# Altium schematic symbol library circuits integres.SchLib: 125 symbols (part 2 of 2)
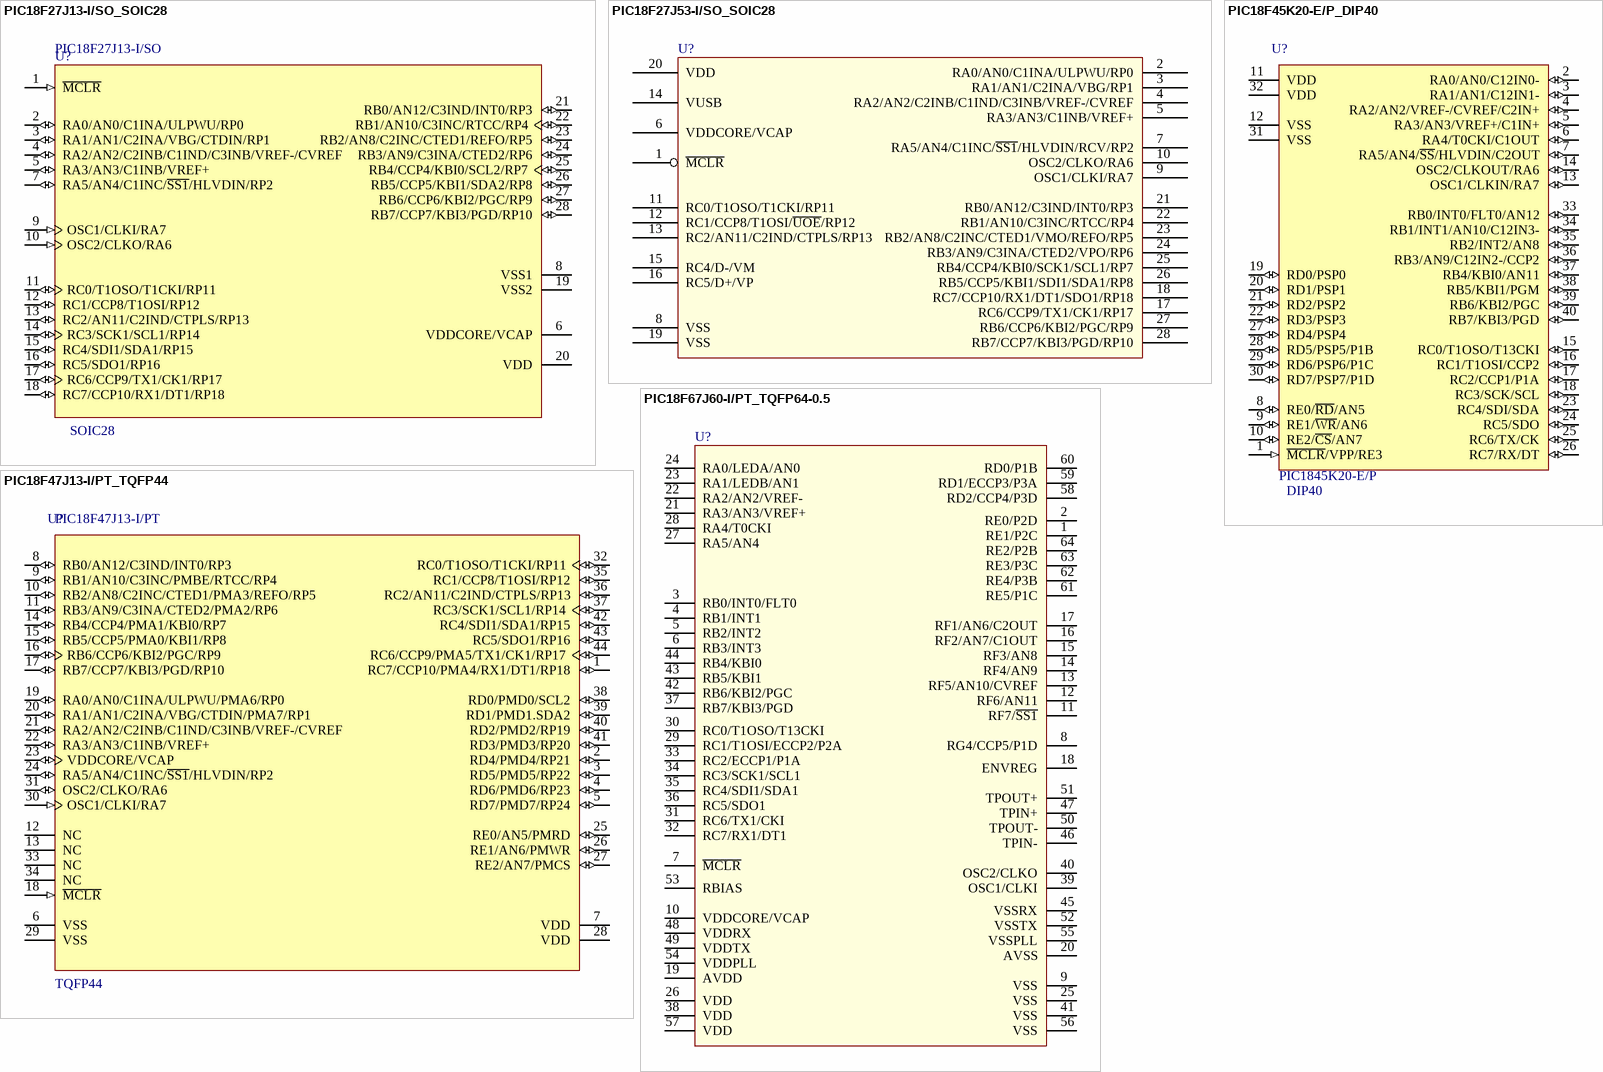
[diagram p10: symbols PIC18F27J13-I/SO_SOIC28 to PIC18F67J60-I/PT_TQFP64-0.5]

## PIC18F27J13-I/SO_SOIC28
designator U?  Package: SOIC28  Type: PIC18F27J13-I/SO  (hidden comment: PIC18F27J13-I/SO_SOIC28)
MICROCONTROLEUR 8 BITS - I/O - 128 KO : MEMOIRE PROG - 8 TIMERS - 3760 OCTETS : RAM - 13 CANAUX A/D 12 BITS - 48MHz : HORLOGE - SOIC28
footprint SOIC28_PAS=1.27_LARG=10.3_LONG=18 (28-Pin Plastic Small Outline Integrated Circuit ; 28 Leads ; Body Width = 7.5 mm ; Pitch = 1.27 mm ; IPC Low Density)
pins: 1 ~{MCLR} (in), 2 RA0/AN0/C1INA/ULPWU/RP0 (io), 3 RA1/AN1/C2INA/VBG/CTDIN/RP1 (io), 4 RA2/AN2/C2INB/C1IND/C3INB/VREF-/CVREF (io), 5 RA3/AN3/C1INB/VREF+ (io), 6 VDDCORE/VCAP (power), 7 RA5/AN4/C1INC/~{SS1}/HLVDIN/RP2 (io), 8 VSS1 (power), 9 OSC1/CLKI/RA7 (in), 10 OSC2/CLKO/RA6 (in), 11 RC0/T1OSO/T1CKI/RP11 (io), 12 RC1/CCP8/T1OSI/RP12 (io), 13 RC2/AN11/C2IND/CTPLS/RP13 (io), 14 RC3/SCK1/SCL1/RP14 (io), 15 RC4/SDI1/SDA1/RP15 (io), 16 RC5/SDO1/RP16 (io), 17 RC6/CCP9/TX1/CK1/RP17 (io), 18 RC7/CCP10/RX1/DT1/RP18 (io), 19 VSS2 (power), 20 VDD (power), 21 RB0/AN12/C3IND/INT0/RP3 (io), 22 RB1/AN10/C3INC/RTCC/RP4 (io), 23 RB2/AN8/C2INC/CTED1/REFO/RP5 (io), 24 RB3/AN9/C3INA/CTED2/RP6 (io), 25 RB4/CCP4/KBI0/SCL2/RP7 (io), 26 RB5/CCP5/KBI1/SDA2/RP8 (io), 27 RB6/CCP6/KBI2/PGC/RP9 (io), 28 RB7/CCP7/KBI3/PGD/RP10 (io)

## PIC18F27J53-I/SO_SOIC28
designator U?  (value not drawn)
footprint SOIC28_PAS=1.27_LARG=10.3_LONG=18 (28-Pin Plastic Small Outline Integrated Circuit ; 28 Leads ; Body Width = 7.5 mm ; Pitch = 1.27 mm ; IPC Low Density)
pins: 1 ~{MCLR}, 2 RA0/AN0/C1INA/ULPWU/RP0, 3 RA1/AN1/C2INA/VBG/RP1, 4 RA2/AN2/C2INB/C1IND/C3INB/VREF-/CVREF, 5 RA3/AN3/C1INB/VREF+, 6 VDDCORE/VCAP, 7 RA5/AN4/C1INC/~{SS1}/HLVDIN/RCV/RP2, 8 VSS, 9 OSC1/CLKI/RA7, 10 OSC2/CLKO/RA6, 11 RC0/T1OSO/T1CKI/RP11, 12 RC1/CCP8/T1OSI/~{UOE}/RP12, 13 RC2/AN11/C2IND/CTPLS/RP13, 14 VUSB, 15 RC4/D-/VM, 16 RC5/D+/VP, 17 RC6/CCP9/TX1/CK1/RP17, 18 RC7/CCP10/RX1/DT1/SDO1/RP18, 19 VSS, 20 VDD, 21 RB0/AN12/C3IND/INT0/RP3, 22 RB1/AN10/C3INC/RTCC/RP4, 23 RB2/AN8/C2INC/CTED1/VMO/REFO/RP5, 24 RB3/AN9/C3INA/CTED2/VPO/RP6, 25 RB4/CCP4/KBI0/SCK1/SCL1/RP7, 26 RB5/CCP5/KBI1/SDI1/SDA1/RP8, 27 RB6/CCP6/KBI2/PGC/RP9, 28 RB7/CCP7/KBI3/PGD/RP10

## PIC18F45K20-E/P_DIP40
designator U?  Type: PIC1845K20-E/P  Package: DIP40  (hidden comment: PIC18F45K20-E/P_DIP40)
MICROCONTROLEUR 8 BITS - 36I/O - 32KO : FLASH - 16KMOTS : MEMOIRE PROG - 4 TIMERS - 256 OCTETS : EEPROM -
footprint DIP40_PAS=2.54_LARG=15.24_LONG=52.5 (Dual-In-Line Plastic Packages (PDIP) ; 40 Leads ; Row Spacing = 15.24 mm ; Pitch = 2.54 mm)
pins: 1 ~{MCLR}/VPP/RE3 (in), 2 RA0/AN0/C12IN0- (io), 3 RA1/AN1/C12IN1- (io), 4 RA2/AN2/VREF-/CVREF/C2IN+ (io), 5 RA3/AN3/VREF+/C1IN+ (io), 6 RA4/T0CKI/C1OUT (io), 7 RA5/AN4/~{SS}/HLVDIN/C2OUT (io), 8 RE0/~{RD}/AN5 (io), 9 RE1/~{WR}/AN6 (io), 10 RE2/~{CS}/AN7 (io), 11 VDD (power), 12 VSS (power), 13 OSC1/CLKIN/RA7 (io), 14 OSC2/CLKOUT/RA6 (io), 15 RC0/T1OSO/T13CKI (io), 16 RC1/T1OSI/CCP2 (io), 17 RC2/CCP1/P1A (io), 18 RC3/SCK/SCL (io), 19 RD0/PSP0 (io), 20 RD1/PSP1 (io), 21 RD2/PSP2 (io), 22 RD3/PSP3 (io), 23 RC4/SDI/SDA (io), 24 RC5/SDO (io), 25 RC6/TX/CK (io), 26 RC7/RX/DT (io), 27 RD4/PSP4 (io), 28 RD5/PSP5/P1B (io), 29 RD6/PSP6/P1C (io), 30 RD7/PSP7/P1D (io), 31 VSS (power), 32 VDD (power), 33 RB0/INT0/FLT0/AN12 (io), 34 RB1/INT1/AN10/C12IN3- (io), 35 RB2/INT2/AN8 (io), 36 RB3/AN9/C12IN2-/CCP2 (io), 37 RB4/KBI0/AN11 (io), 38 RB5/KBI1/PGM (io), 39 RB6/KBI2/PGC (io), 40 RB7/KBI3/PGD (io)

## PIC18F47J13-I/PT_TQFP44
designator U?  Type: PIC18F47J13-I/PT  Package: TQFP44  (hidden comment: PIC18F47J13-I/PT_TQFP44)
MICROCONTROLEUR 8 BITS - 36 I/O - 32 KO : FLASH - 16 KMOTS : MEMOIRE PROG - 4 TIMERS - 256 OCTETS : EEPROM - 1536 OCTETS : RAM - 13 CANAUX A/D 10 BITS - 40 MHz : HORLOGE - TQFP44
footprint TQFP44_PAS=0.8_LARG=12_LONG=12 (Thin Plastic Quad Flat Pack Package ; 44 Leads ; Body : 10 mm x 10 mm ; Pitch = 0.8 mm ; IPC Low Density)
pins: 1 RC7/CCP10/PMA4/RX1/DT1/RP18 (io), 2 RD4/PMD4/RP21 (io), 3 RD5/PMD5/RP22 (io), 4 RD6/PMD6/RP23 (io), 5 RD7/PMD7/RP24 (io), 6 VSS (power), 7 VDD (power), 8 RB0/AN12/C3IND/INT0/RP3 (io), 9 RB1/AN10/C3INC/PMBE/RTCC/RP4 (io), 10 RB2/AN8/C2INC/CTED1/PMA3/REFO/RP5 (io), 11 RB3/AN9/C3INA/CTED2/PMA2/RP6 (io), 12 NC, 13 NC, 14 RB4/CCP4/PMA1/KBI0/RP7 (io), 15 RB5/CCP5/PMA0/KBI1/RP8 (io), 16 RB6/CCP6/KBI2/PGC/RP9 (io), 17 RB7/CCP7/KBI3/PGD/RP10 (io), 18 ~{MCLR} (in), 19 RA0/AN0/C1INA/ULPWU/PMA6/RP0 (io), 20 RA1/AN1/C2INA/VBG/CTDIN/PMA7/RP1 (io), 21 RA2/AN2/C2INB/C1IND/C3INB/VREF-/CVREF (io), 22 RA3/AN3/C1INB/VREF+ (io), 23 VDDCORE/VCAP (io), 24 RA5/AN4/C1INC/~{SS1}/HLVDIN/RP2 (io), 25 RE0/AN5/PMRD (io), 26 RE1/AN6/PMWR (io), 27 RE2/AN7/PMCS (io), 28 VDD (power), 29 VSS (power), 30 OSC1/CLKI/RA7 (in), 31 OSC2/CLKO/RA6 (io), 32 RC0/T1OSO/T1CKI/RP11 (io), 33 NC, 34 NC, 35 RC1/CCP8/T1OSI/RP12 (io), 36 RC2/AN11/C2IND/CTPLS/RP13 (io), 37 RC3/SCK1/SCL1/RP14 (io), 38 RD0/PMD0/SCL2 (io), 39 RD1/PMD1.SDA2 (io), 40 RD2/PMD2/RP19 (io), 41 RD3/PMD3/RP20 (io), 42 RC4/SDI1/SDA1/RP15 (io), 43 RC5/SDO1/RP16 (io), 44 RC6/CCP9/PMA5/TX1/CK1/RP17 (io)

## PIC18F67J60-I/PT_TQFP64-0.5
designator U?  (value not drawn)
footprint TQFP64_PAS=0.5_LARG=12_LONG=12 (Thin Plastic Quad Flat Pack Package ; 64 Leads ; Body : 10 mm x 10 mm ; Pitch = 0.5 mm ; IPC Low Density)
pins: 1 RE1/P2C, 2 RE0/P2D, 3 RB0/INT0/FLT0, 4 RB1/INT1, 5 RB2/INT2, 6 RB3/INT3, 7 ~{MCLR}, 8 RG4/CCP5/P1D, 9 VSS, 10 VDDCORE/VCAP, 11 RF7/~{SS1}, 12 RF6/AN11, 13 RF5/AN10/CVREF, 14 RF4/AN9, 15 RF3/AN8, 16 RF2/AN7/C1OUT, 17 RF1/AN6/C2OUT, 18 ENVREG, 19 AVDD, 20 AVSS, 21 RA3/AN3/VREF+, 22 RA2/AN2/VREF-, 23 RA1/LEDB/AN1, 24 RA0/LEDA/AN0, 25 VSS, 26 VDD, 27 RA5/AN4, 28 RA4/T0CKI, 29 RC1/T1OSI/ECCP2/P2A, 30 RC0/T1OSO/T13CKI, 31 RC6/TX1/CKI, 32 RC7/RX1/DT1, 33 RC2/ECCP1/P1A, 34 RC3/SCK1/SCL1, 35 RC4/SDI1/SDA1, 36 RC5/SDO1, 37 RB7/KBI3/PGD, 38 VDD, 39 OSC1/CLKI, 40 OSC2/CLKO, 41 VSS, 42 RB6/KBI2/PGC, 43 RB5/KBI1, 44 RB4/KBI0, 45 VSSRX, 46 TPIN-, 47 TPIN+, 48 VDDRX, 49 VDDTX, 50 TPOUT-, 51 TPOUT+, 52 VSSTX, 53 RBIAS, 54 VDDPLL, 55 VSSPLL, 56 VSS, 57 VDD, 58 RD2/CCP4/P3D, 59 RD1/ECCP3/P3A, 60 RD0/P1B, 61 RE5/P1C, 62 RE4/P3B, 63 RE3/P3C, 64 RE2/P2B

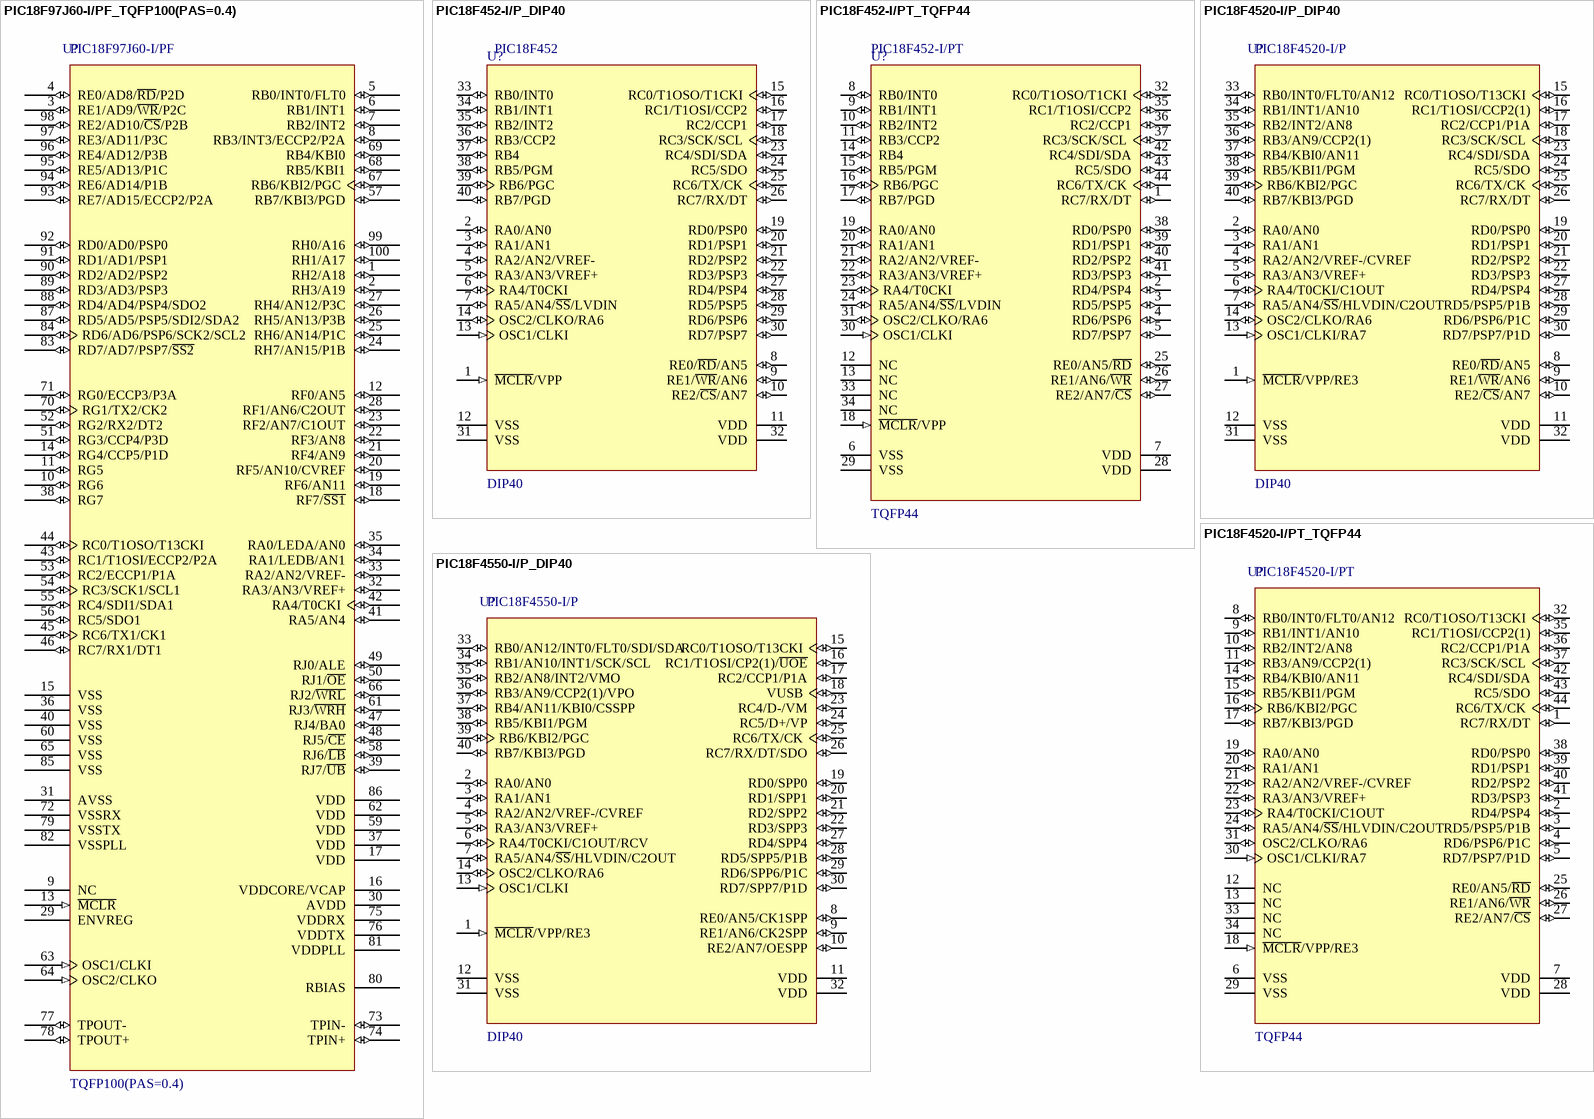
[diagram p6: symbols PIC18F97J60-I/PF_TQFP100(PAS=0.4) to PIC18F4550-I/P_DIP40]

## PIC18F97J60-I/PF_TQFP100(PAS=0.4)
designator U?  Type: PIC18F97J60-I/PF  Package: TQFP100(PAS=0.4)  (hidden comment: PIC18F97J60-I/PF_TQFP100(PAS=0.4))
MICROCONTROLEUR 8 BITS - 70 I/O - 128 KO : FLASH - 64 KMOTS : MEMOIRE PROG - 5 TIMERS - 3808 OCTETS : RAM - 16 CANAUX A/D 10 BITS - 8 KO : BUFFER ETHERNET - 41.667 MHz : HORLOGE - TQFP100
footprint TQFP100_PAS=0.4_LARG=14_LONG=14 (Thin Plastic Quad Flat Pack Package ; 100 Leads ; Body : 12 mm x 12 mm ; Pitch = 0.4 mm ; IPC Low Density)
pins: 1 RH2/A18 (io), 2 RH3/A19 (io), 3 RE1/AD9/~{WR}/P2C (io), 4 RE0/AD8/~{RD}/P2D (io), 5 RB0/INT0/FLT0 (io), 6 RB1/INT1 (io), 7 RB2/INT2 (io), 8 RB3/INT3/ECCP2/P2A (io), 9 NC, 10 RG6 (io), 11 RG5 (io), 12 RF0/AN5 (io), 13 ~{MCLR} (in), 14 RG4/CCP5/P1D (io), 15 VSS (power), 16 VDDCORE/VCAP (power), 17 VDD (power), 18 RF7/~{SS1} (io), 19 RF6/AN11 (io), 20 RF5/AN10/CVREF (io), 21 RF4/AN9 (io), 22 RF3/AN8 (io), 23 RF2/AN7/C1OUT (io), 24 RH7/AN15/P1B (io), 25 RH6/AN14/P1C (io), 26 RH5/AN13/P3B (io), 27 RH4/AN12/P3C (io), 28 RF1/AN6/C2OUT (io), 29 ENVREG, 30 AVDD (power), 31 AVSS (power), 32 RA3/AN3/VREF+ (io), 33 RA2/AN2/VREF- (io), 34 RA1/LEDB/AN1 (io), 35 RA0/LEDA/AN0 (io), 36 VSS (power), 37 VDD (power), 38 RG7 (io), 39 RJ7/~{UB} (io), 40 VSS (power), 41 RA5/AN4 (io), 42 RA4/T0CKI (io), 43 RC1/T1OSI/ECCP2/P2A (io), 44 RC0/T1OSO/T13CKI (io), 45 RC6/TX1/CK1 (io), 46 RC7/RX1/DT1 (io), 47 RJ4/BA0 (io), 48 RJ5/~{CE} (io), 49 RJ0/ALE (io), 50 RJ1/~{OE} (io), 51 RG3/CCP4/P3D (io), 52 RG2/RX2/DT2 (io), 53 RC2/ECCP1/P1A (io), 54 RC3/SCK1/SCL1 (io), 55 RC4/SDI1/SDA1 (io), 56 RC5/SDO1 (io), 57 RB7/KBI3/PGD (io), 58 RJ6/~{LB} (io), 59 VDD (power), 60 VSS (power), 61 RJ3/~{WRH} (io), 62 VDD (power), 63 OSC1/CLKI (in), 64 OSC2/CLKO (in), 65 VSS (power), 66 RJ2/~{WRL} (io), 67 RB6/KBI2/PGC (io), 68 RB5/KBI1 (io), 69 RB4/KBI0 (io), 70 RG1/TX2/CK2 (io), 71 RG0/ECCP3/P3A (io), 72 VSSRX (power), 73 TPIN- (io), 74 TPIN+ (io), 75 VDDRX (power), 76 VDDTX (power), 77 TPOUT- (io), 78 TPOUT+ (io), 79 VSSTX (power), 80 RBIAS, 81 VDDPLL (power), 82 VSSPLL (power), 83 RD7/AD7/PSP7/~{SS2} (io), 84 RD6/AD6/PSP6/SCK2/SCL2 (io), 85 VSS (power), 86 VDD (power), 87 RD5/AD5/PSP5/SDI2/SDA2 (io), 88 RD4/AD4/PSP4/SDO2 (io), 89 RD3/AD3/PSP3 (io), 90 RD2/AD2/PSP2 (io), 91 RD1/AD1/PSP1 (io), 92 RD0/AD0/PSP0 (io), 93 RE7/AD15/ECCP2/P2A (io), 94 RE6/AD14/P1B (io), 95 RE5/AD13/P1C (io), 96 RE4/AD12/P3B (io), 97 RE3/AD11/P3C (io), 98 RE2/AD10/~{CS}/P2B (io), 99 RH0/A16 (io), 100 RH1/A17 (io)

## PIC18F452-I/P_DIP40
designator U?  Type: PIC18F452  Package: DIP40  (hidden comment: PIC18F452-I/P_DIP40)
MICROCONTROLEUR 8 BITS - 34 I/O - 32 KO : FLASH - 16 KMOTS : MEMOIRE PROG - 4 TIMERS - 256 OCTETS : EEPROM - 1536 OCTETS : RAM - 8 CANAUX A/D 10 BITS - 40 MHz : HORLOGE - DIP40
3D model PDIP600-40 (DIP, Plastic; 40 Leads; Row Spacing 15.24 mm; Pitch 2.54 mm)
footprint DIP40_PAS=2.54_LARG=15.24_LONG=52.5 (Dual-In-Line Plastic Packages (PDIP) ; 40 Leads ; Row Spacing = 15.24 mm ; Pitch = 2.54 mm)
pins: 1 ~{MCLR}/VPP (in), 2 RA0/AN0 (io), 3 RA1/AN1 (io), 4 RA2/AN2/VREF- (io), 5 RA3/AN3/VREF+ (io), 6 RA4/T0CKI (io), 7 RA5/AN4/~{SS}/LVDIN (io), 8 RE0/~{RD}/AN5 (io), 9 RE1/~{WR}/AN6 (io), 10 RE2/~{CS}/AN7 (io), 11 VDD (power), 12 VSS (power), 13 OSC1/CLKI (in), 14 OSC2/CLKO/RA6 (io), 15 RC0/T1OSO/T1CKI (io), 16 RC1/T1OSI/CCP2 (io), 17 RC2/CCP1 (io), 18 RC3/SCK/SCL (io), 19 RD0/PSP0 (io), 20 RD1/PSP1 (io), 21 RD2/PSP2 (io), 22 RD3/PSP3 (io), 23 RC4/SDI/SDA (io), 24 RC5/SDO (io), 25 RC6/TX/CK (io), 26 RC7/RX/DT (io), 27 RD4/PSP4 (io), 28 RD5/PSP5 (io), 29 RD6/PSP6 (io), 30 RD7/PSP7 (io), 31 VSS (power), 32 VDD (power), 33 RB0/INT0 (io), 34 RB1/INT1 (io), 35 RB2/INT2 (io), 36 RB3/CCP2 (io), 37 RB4 (io), 38 RB5/PGM (io), 39 RB6/PGC (io), 40 RB7/PGD (io)

## PIC18F452-I/PT_TQFP44
designator U?  Type: PIC18F452-I/PT  Package: TQFP44  (hidden comment: PIC18F452-I/PT_TQFP44)
MICROCONTROLEUR 8 BITS - 34 I/O - 32 KO : FLASH - 16 KMOTS : MEMOIRE PROG - 4 TIMERS - 256 OCTETS : EEPROM - 1536 OCTETS : RAM - 8 CANAUX A/D 10 BITS - 40 MHz : HORLOGE - TQFP44
3D model PIC18F452-TQFP-44 (44-Pin Thin Quad Flat Pack 0.8 mm Pitch, 1.0/0.1 mm Lead Form)
footprint TQFP44_PAS=0.8_LARG=12_LONG=12 (Thin Plastic Quad Flat Pack Package ; 44 Leads ; Body : 10 mm x 10 mm ; Pitch = 0.8 mm ; IPC Low Density)
pins: 1 RC7/RX/DT (io), 2 RD4/PSP4 (io), 3 RD5/PSP5 (io), 4 RD6/PSP6 (io), 5 RD7/PSP7 (io), 6 VSS (power), 7 VDD (power), 8 RB0/INT0 (io), 9 RB1/INT1 (io), 10 RB2/INT2 (io), 11 RB3/CCP2 (io), 12 NC, 13 NC, 14 RB4 (io), 15 RB5/PGM (io), 16 RB6/PGC (io), 17 RB7/PGD (io), 18 ~{MCLR}/VPP (in), 19 RA0/AN0 (io), 20 RA1/AN1 (io), 21 RA2/AN2/VREF- (io), 22 RA3/AN3/VREF+ (io), 23 RA4/T0CKI (io), 24 RA5/AN4/~{SS}/LVDIN (io), 25 RE0/AN5/~{RD} (io), 26 RE1/AN6/~{WR} (io), 27 RE2/AN7/~{CS} (io), 28 VDD (power), 29 VSS (power), 30 OSC1/CLKI (in), 31 OSC2/CLKO/RA6 (io), 32 RC0/T1OSO/T1CKI (io), 33 NC, 34 NC, 35 RC1/T1OSI/CCP2 (io), 36 RC2/CCP1 (io), 37 RC3/SCK/SCL (io), 38 RD0/PSP0 (io), 39 RD1/PSP1 (io), 40 RD2/PSP2 (io), 41 RD3/PSP3 (io), 42 RC4/SDI/SDA (io), 43 RC5/SDO (io), 44 RC6/TX/CK (io)

## PIC18F4520-I/P_DIP40
designator U?  Type: PIC18F4520-I/P  Package: DIP40  (hidden comment: PIC18F4520-I/P_DIP40)
MICROCONTROLEUR 8 BITS - 36 I/O - 32 KO : FLASH - 16 KMOTS : MEMOIRE PROG - 4 TIMERS - 256 OCTETS : EEPROM - 1536 OCTETS : RAM - 13 CANAUX A/D 10 BITS - 40 MHz : HORLOGE - DIP40
3D model PDIP600-40 (PCB3D Model)
footprint DIP40_PAS=2.54_LARG=15.24_LONG=52.5 (Dual-In-Line Plastic Packages (PDIP) ; 40 Leads ; Row Spacing = 15.24 mm ; Pitch = 2.54 mm)
pins: 1 ~{MCLR}/VPP/RE3 (in), 2 RA0/AN0 (io), 3 RA1/AN1 (io), 4 RA2/AN2/VREF-/CVREF (io), 5 RA3/AN3/VREF+ (io), 6 RA4/T0CKI/C1OUT (io), 7 RA5/AN4/~{SS}/HLVDIN/C2OUT (io), 8 RE0/~{RD}/AN5 (io), 9 RE1/~{WR}/AN6 (io), 10 RE2/~{CS}/AN7 (io), 11 VDD (power), 12 VSS (power), 13 OSC1/CLKI/RA7 (in), 14 OSC2/CLKO/RA6 (io), 15 RC0/T1OSO/T13CKI (io), 16 RC1/T1OSI/CCP2(1) (io), 17 RC2/CCP1/P1A (io), 18 RC3/SCK/SCL (io), 19 RD0/PSP0 (io), 20 RD1/PSP1 (io), 21 RD2/PSP2 (io), 22 RD3/PSP3 (io), 23 RC4/SDI/SDA (io), 24 RC5/SDO (io), 25 RC6/TX/CK (io), 26 RC7/RX/DT (io), 27 RD4/PSP4 (io), 28 RD5/PSP5/P1B (io), 29 RD6/PSP6/P1C (io), 30 RD7/PSP7/P1D (io), 31 VSS (power), 32 VDD (power), 33 RB0/INT0/FLT0/AN12 (io), 34 RB1/INT1/AN10 (io), 35 RB2/INT2/AN8 (io), 36 RB3/AN9/CCP2(1) (io), 37 RB4/KBI0/AN11 (io), 38 RB5/KBI1/PGM (io), 39 RB6/KBI2/PGC (io), 40 RB7/KBI3/PGD (io)

## PIC18F4520-I/PT_TQFP44
designator U?  Type: PIC18F4520-I/PT  Package: TQFP44  (hidden comment: PIC18F4520-I/PT_TQFP44)
MICROCONTROLEUR 8 BITS - 36 I/O - 32 KO : FLASH - 16 KMOTS : MEMOIRE PROG - 4 TIMERS - 256 OCTETS : EEPROM - 1536 OCTETS : RAM - 13 CANAUX A/D 10 BITS - 40 MHz : HORLOGE - TQFP44
footprint TQFP44_PAS=0.8_LARG=12_LONG=12 (Thin Plastic Quad Flat Pack Package ; 44 Leads ; Body : 10 mm x 10 mm ; Pitch = 0.8 mm ; IPC Low Density)
pins: 1 RC7/RX/DT (io), 2 RD4/PSP4 (io), 3 RD5/PSP5/P1B (io), 4 RD6/PSP6/P1C (io), 5 RD7/PSP7/P1D (io), 6 VSS (power), 7 VDD (power), 8 RB0/INT0/FLT0/AN12 (io), 9 RB1/INT1/AN10 (io), 10 RB2/INT2/AN8 (io), 11 RB3/AN9/CCP2(1) (io), 12 NC, 13 NC, 14 RB4/KBI0/AN11 (io), 15 RB5/KBI1/PGM (io), 16 RB6/KBI2/PGC (io), 17 RB7/KBI3/PGD (io), 18 ~{MCLR}/VPP/RE3 (in), 19 RA0/AN0 (io), 20 RA1/AN1 (io), 21 RA2/AN2/VREF-/CVREF (io), 22 RA3/AN3/VREF+ (io), 23 RA4/T0CKI/C1OUT (io), 24 RA5/AN4/~{SS}/HLVDIN/C2OUT (io), 25 RE0/AN5/~{RD} (io), 26 RE1/AN6/~{WR} (io), 27 RE2/AN7/~{CS} (io), 28 VDD (power), 29 VSS (power), 30 OSC1/CLKI/RA7 (in), 31 OSC2/CLKO/RA6 (io), 32 RC0/T1OSO/T13CKI (io), 33 NC, 34 NC, 35 RC1/T1OSI/CCP2(1) (io), 36 RC2/CCP1/P1A (io), 37 RC3/SCK/SCL (io), 38 RD0/PSP0 (io), 39 RD1/PSP1 (io), 40 RD2/PSP2 (io), 41 RD3/PSP3 (io), 42 RC4/SDI/SDA (io), 43 RC5/SDO (io), 44 RC6/TX/CK (io)

## PIC18F4550-I/P_DIP40
designator U?  Type: PIC18F4550-I/P  Package: DIP40  (hidden comment: PIC18F4550-I/P_DIP40)
MICROCONTROLEUR 8 BITS - 35 I/O - 32 KO : FLASH - 16 KMOTS : MEMOIRE PROG - 4 TIMERS - 256 OCTETS : EEPROM - 2 KO : RAM - 13 CANAUX A/D 10 BITS - 48 MHz : HORLOGE - DIP40
footprint DIP40_PAS=2.54_LARG=15.24_LONG=52.5 (Dual-In-Line Plastic Packages (PDIP) ; 40 Leads ; Row Spacing = 15.24 mm ; Pitch = 2.54 mm)
pins: 1 ~{MCLR}/VPP/RE3 (in), 2 RA0/AN0 (io), 3 RA1/AN1 (io), 4 RA2/AN2/VREF-/CVREF (io), 5 RA3/AN3/VREF+ (io), 6 RA4/T0CKI/C1OUT/RCV (io), 7 RA5/AN4/~{SS}/HLVDIN/C2OUT (io), 8 RE0/AN5/CK1SPP (io), 9 RE1/AN6/CK2SPP (io), 10 RE2/AN7/OESPP (io), 11 VDD (power), 12 VSS (power), 13 OSC1/CLKI (in), 14 OSC2/CLKO/RA6 (io), 15 RC0/T1OSO/T13CKI (io), 16 RC1/T1OSI/CP2(1)/~{UOE} (io), 17 RC2/CCP1/P1A (io), 18 VUSB (io), 19 RD0/SPP0 (io), 20 RD1/SPP1 (io), 21 RD2/SPP2 (io), 22 RD3/SPP3 (io), 23 RC4/D-/VM (io), 24 RC5/D+/VP (io), 25 RC6/TX/CK (io), 26 RC7/RX/DT/SDO (io), 27 RD4/SPP4 (io), 28 RD5/SPP5/P1B (io), 29 RD6/SPP6/P1C (io), 30 RD7/SPP7/P1D (io), 31 VSS (power), 32 VDD (power), 33 RB0/AN12/INT0/FLT0/SDI/SDA (io), 34 RB1/AN10/INT1/SCK/SCL (io), 35 RB2/AN8/INT2/VMO (io), 36 RB3/AN9/CCP2(1)/VPO (io), 37 RB4/AN11/KBI0/CSSPP (io), 38 RB5/KBI1/PGM (io), 39 RB6/KBI2/PGC (io), 40 RB7/KBI3/PGD (io)

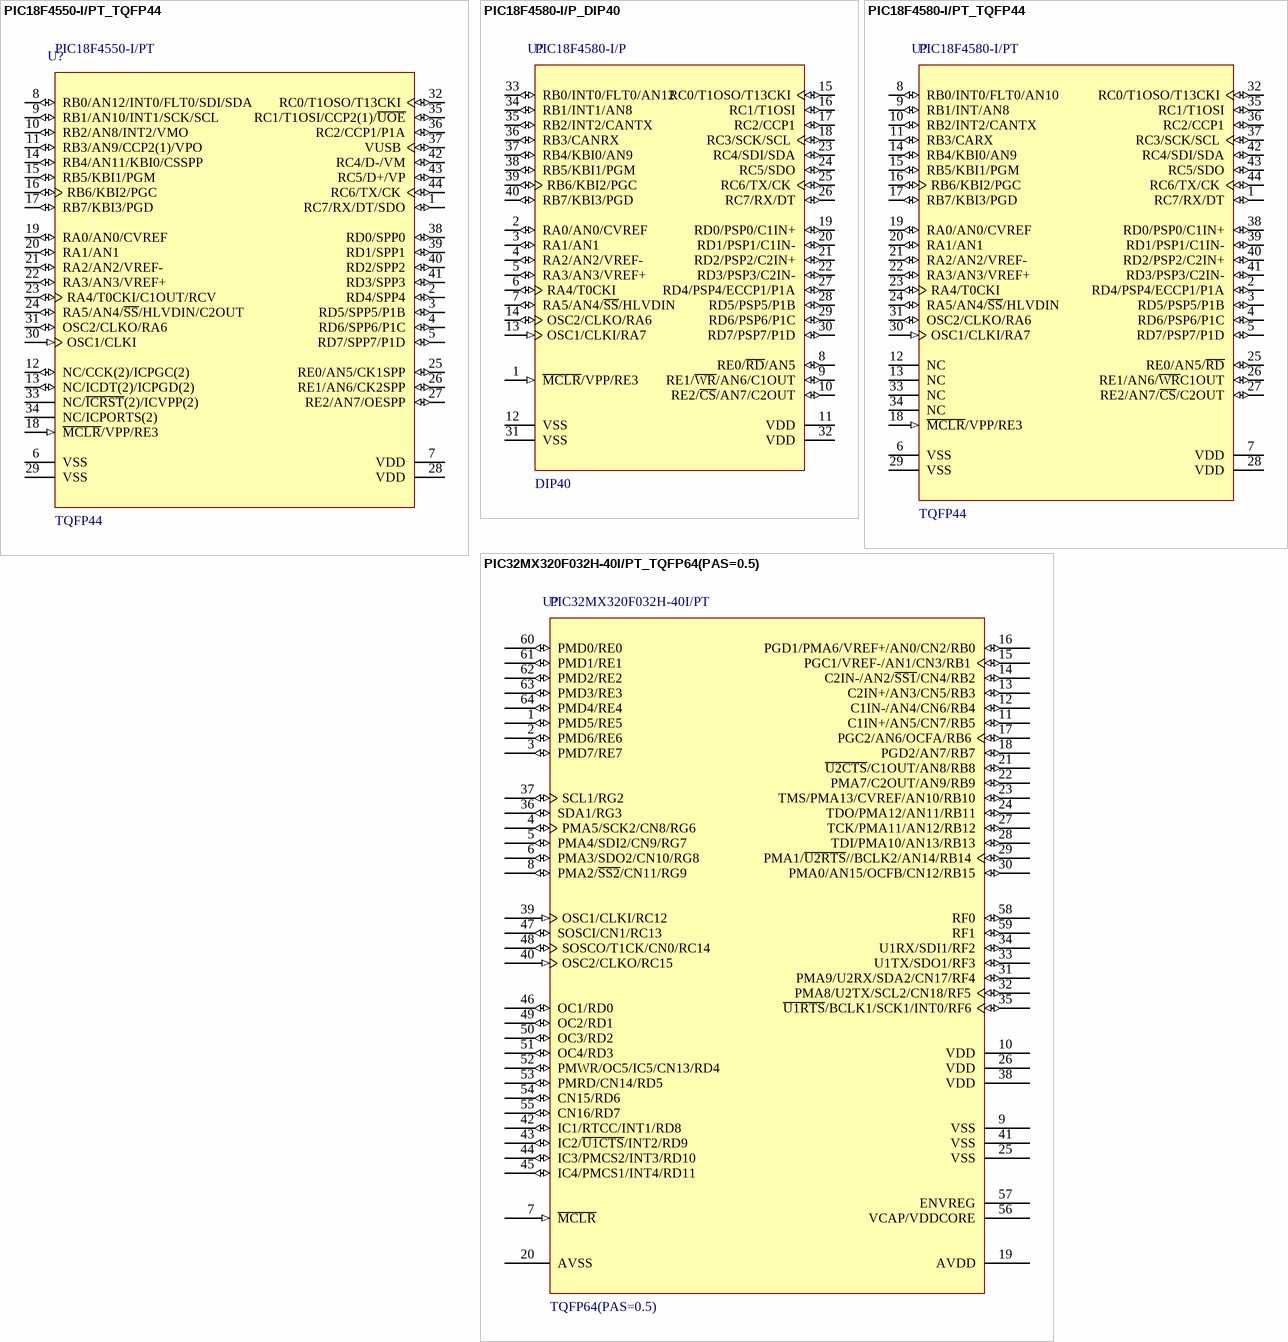
[diagram p7: symbols PIC18F4550-I/PT_TQFP44 to PIC32MX320F032H-40I/PT_TQFP64(PAS=0.5)]

## PIC18F4550-I/PT_TQFP44
designator U?  Type: PIC18F4550-I/PT  Package: TQFP44  (hidden comment: PIC18F4550-I/PT_TQFP44)
MICROCONTROLEUR 8 BITS - 35 I/O - 32 KO : FLASH - 16 KMOTS : MEMOIRE PROG - 4 TIMERS - 256 OCTETS : EEPROM - 2 KO : RAM - 13 CANAUX A/D 10 BITS - 48 MHz : HORLOGE - TQFP44
footprint TQFP44_PAS=0.8_LARG=12_LONG=12 (Thin Plastic Quad Flat Pack Package ; 44 Leads ; Body : 10 mm x 10 mm ; Pitch = 0.8 mm ; IPC Low Density)
pins: 1 RC7/RX/DT/SDO (io), 2 RD4/SPP4 (io), 3 RD5/SPP5/P1B (io), 4 RD6/SPP6/P1C (io), 5 RD7/SPP7/P1D (io), 6 VSS (power), 7 VDD (power), 8 RB0/AN12/INT0/FLT0/SDI/SDA (io), 9 RB1/AN10/INT1/SCK/SCL (io), 10 RB2/AN8/INT2/VMO (io), 11 RB3/AN9/CCP2(1)/VPO (io), 12 NC/CCK(2)/ICPGC(2) (io), 13 NC/ICDT(2)/ICPGD(2) (io), 14 RB4/AN11/KBI0/CSSPP (io), 15 RB5/KBI1/PGM (io), 16 RB6/KBI2/PGC (io), 17 RB7/KBI3/PGD (io), 18 ~{MCLR}/VPP/RE3 (in), 19 RA0/AN0/CVREF (io), 20 RA1/AN1 (io), 21 RA2/AN2/VREF- (io), 22 RA3/AN3/VREF+ (io), 23 RA4/T0CKI/C1OUT/RCV (io), 24 RA5/AN4/~{SS}/HLVDIN/C2OUT (io), 25 RE0/AN5/CK1SPP (io), 26 RE1/AN6/CK2SPP (io), 27 RE2/AN7/OESPP (io), 28 VDD (power), 29 VSS (power), 30 OSC1/CLKI (in), 31 OSC2/CLKO/RA6 (io), 32 RC0/T1OSO/T13CKI (io), 33 NC/~{ICRST}(2)/ICVPP(2), 34 NC/ICPORTS(2), 35 RC1/T1OSI/CCP2(1)/~{UOE} (io), 36 RC2/CCP1/P1A (io), 37 VUSB (io), 38 RD0/SPP0 (io), 39 RD1/SPP1 (io), 40 RD2/SPP2 (io), 41 RD3/SPP3 (io), 42 RC4/D-/VM (io), 43 RC5/D+/VP (io), 44 RC6/TX/CK (io)

## PIC18F4580-I/P_DIP40
designator U?  Type: PIC18F4580-I/P  Package: DIP40  (hidden comment: PIC18F4580-I/P_DIP40)
MICROCONTROLEUR 8 BITS - 36 I/O - 32 KO : FLASH - 16 KMOTS : MEMOIRE PROG - 4 TIMERS - 256 OCTETS : EEPROM - 1536 OCTETS : RAM - 11 CANAUX A/D 10 BITS - 40 MHz : HORLOGE - DIP40
footprint DIP40_PAS=2.54_LARG=15.24_LONG=52.5 (Dual-In-Line Plastic Packages (PDIP) ; 40 Leads ; Row Spacing = 15.24 mm ; Pitch = 2.54 mm)
pins: 1 ~{MCLR}/VPP/RE3 (in), 2 RA0/AN0/CVREF (io), 3 RA1/AN1 (io), 4 RA2/AN2/VREF- (io), 5 RA3/AN3/VREF+ (io), 6 RA4/T0CKI (io), 7 RA5/AN4/~{SS}/HLVDIN (io), 8 RE0/~{RD}/AN5 (io), 9 RE1/~{WR}/AN6/C1OUT (io), 10 RE2/~{CS}/AN7/C2OUT (io), 11 VDD (power), 12 VSS (power), 13 OSC1/CLKI/RA7 (in), 14 OSC2/CLKO/RA6 (io), 15 RC0/T1OSO/T13CKI (io), 16 RC1/T1OSI (io), 17 RC2/CCP1 (io), 18 RC3/SCK/SCL (io), 19 RD0/PSP0/C1IN+ (io), 20 RD1/PSP1/C1IN- (io), 21 RD2/PSP2/C2IN+ (io), 22 RD3/PSP3/C2IN- (io), 23 RC4/SDI/SDA (io), 24 RC5/SDO (io), 25 RC6/TX/CK (io), 26 RC7/RX/DT (io), 27 RD4/PSP4/ECCP1/P1A (io), 28 RD5/PSP5/P1B (io), 29 RD6/PSP6/P1C (io), 30 RD7/PSP7/P1D (io), 31 VSS (power), 32 VDD (power), 33 RB0/INT0/FLT0/AN12 (io), 34 RB1/INT1/AN8 (io), 35 RB2/INT2/CANTX (io), 36 RB3/CANRX (io), 37 RB4/KBI0/AN9 (io), 38 RB5/KBI1/PGM (io), 39 RB6/KBI2/PGC (io), 40 RB7/KBI3/PGD (io)

## PIC18F4580-I/PT_TQFP44
designator U?  Type: PIC18F4580-I/PT  Package: TQFP44  (hidden comment: PIC18F4580-I/PT_TQFP44)
MICROCONTROLEUR 8 BITS - 36 I/O - 32 KO : FLASH - 16 KMOTS : MEMOIRE PROG - 4 TIMERS - 256 OCTETS : EEPROM - 1536 OCTETS : RAM - 11 CANAUX A/D 10 BITS - 40 MHz : HORLOGE - TQFP44
footprint TQFP44_PAS=0.8_LARG=12_LONG=12 (Thin Plastic Quad Flat Pack Package ; 44 Leads ; Body : 10 mm x 10 mm ; Pitch = 0.8 mm ; IPC Low Density)
pins: 1 RC7/RX/DT (io), 2 RD4/PSP4/ECCP1/P1A (io), 3 RD5/PSP5/P1B (io), 4 RD6/PSP6/P1C (io), 5 RD7/PSP7/P1D (io), 6 VSS (power), 7 VDD (power), 8 RB0/INT0/FLT0/AN10 (io), 9 RB1/INT/AN8 (io), 10 RB2/INT2/CANTX (io), 11 RB3/CARX (io), 12 NC, 13 NC, 14 RB4/KBI0/AN9 (io), 15 RB5/KBI1/PGM (io), 16 RB6/KBI2/PGC (io), 17 RB7/KBI3/PGD (io), 18 ~{MCLR}/VPP/RE3 (in), 19 RA0/AN0/CVREF (io), 20 RA1/AN1 (io), 21 RA2/AN2/VREF- (io), 22 RA3/AN3/VREF+ (io), 23 RA4/T0CKI (io), 24 RA5/AN4/~{SS}/HLVDIN (io), 25 RE0/AN5/~{RD} (io), 26 RE1/AN6/~{WR}C1OUT (io), 27 RE2/AN7/~{CS}/C2OUT (io), 28 VDD (power), 29 VSS (power), 30 OSC1/CLKI/RA7 (in), 31 OSC2/CLKO/RA6 (io), 32 RC0/T1OSO/T13CKI (io), 33 NC, 34 NC, 35 RC1/T1OSI (io), 36 RC2/CCP1 (io), 37 RC3/SCK/SCL (io), 38 RD0/PSP0/C1IN+ (io), 39 RD1/PSP1/C1IN- (io), 40 RD2/PSP2/C2IN+ (io), 41 RD3/PSP3/C2IN- (io), 42 RC4/SDI/SDA (io), 43 RC5/SDO (io), 44 RC6/TX/CK (io)

## PIC32MX320F032H-40I/PT_TQFP64(PAS=0.5)
designator U?  Type: PIC32MX320F032H-40I/PT  Package: TQFP64(PAS=0.5)  (hidden comment: PIC32MX320F032H-40I/PT_TQFP64(PAS=0.5))
MICROCONTROLEUR 32 BITS - 53 I/O - 32 KO : FLASH - 32KO : MEMOIRE PROG - 6 TIMERS - 8KO : RAM - 16 CANAUX A/D 10 BITS - JTAG - 4 DMA - 40 MHz : HORLOGE - TQFP64
footprint TQFP64_PAS=0.5_LARG=12_LONG=12 (Thin Plastic Quad Flat Pack Package ; 64 Leads ; Body : 10 mm x 10 mm ; Pitch = 0.5 mm ; IPC Low Density)
pins: 1 PMD5/RE5 (io), 2 PMD6/RE6 (io), 3 PMD7/RE7 (io), 4 PMA5/SCK2/CN8/RG6 (io), 5 PMA4/SDI2/CN9/RG7 (io), 6 PMA3/SDO2/CN10/RG8 (io), 7 ~{MCLR} (in), 8 PMA2/~{SS2}/CN11/RG9 (io), 9 VSS (power), 10 VDD (power), 11 C1IN+/AN5/CN7/RB5 (io), 12 C1IN-/AN4/CN6/RB4 (io), 13 C2IN+/AN3/CN5/RB3 (io), 14 C2IN-/AN2/~{SS1}/CN4/RB2 (io), 15 PGC1/VREF-/AN1/CN3/RB1 (io), 16 PGD1/PMA6/VREF+/AN0/CN2/RB0 (io), 17 PGC2/AN6/OCFA/RB6 (io), 18 PGD2/AN7/RB7 (io), 19 AVDD (power), 20 AVSS (power), 21 ~{U2CTS}/C1OUT/AN8/RB8 (io), 22 PMA7/C2OUT/AN9/RB9 (io), 23 TMS/PMA13/CVREF/AN10/RB10 (io), 24 TDO/PMA12/AN11/RB11 (io), 25 VSS (power), 26 VDD (power), 27 TCK/PMA11/AN12/RB12 (io), 28 TDI/PMA10/AN13/RB13 (io), 29 PMA1/~{U2RTS}//BCLK2/AN14/RB14 (io), 30 PMA0/AN15/OCFB/CN12/RB15 (io), 31 PMA9/U2RX/SDA2/CN17/RF4 (io), 32 PMA8/U2TX/SCL2/CN18/RF5 (io), 33 U1TX/SDO1/RF3 (io), 34 U1RX/SDI1/RF2 (io), 35 ~{U1RTS}/BCLK1/SCK1/INT0/RF6 (io), 36 SDA1/RG3 (io), 37 SCL1/RG2 (io), 38 VDD (power), 39 OSC1/CLKI/RC12 (in), 40 OSC2/CLKO/RC15 (in), 41 VSS (power), 42 IC1/RTCC/INT1/RD8 (io), 43 IC2/~{U1CTS}/INT2/RD9 (io), 44 IC3/PMCS2/INT3/RD10 (io), 45 IC4/PMCS1/INT4/RD11 (io), 46 OC1/RD0 (io), 47 SOSCI/CN1/RC13 (io), 48 SOSCO/T1CK/CN0/RC14 (io), 49 OC2/RD1 (io), 50 OC3/RD2 (io), 51 OC4/RD3 (io), 52 PMWR/OC5/IC5/CN13/RD4 (io), 53 PMRD/CN14/RD5 (io), 54 CN15/RD6 (io), 55 CN16/RD7 (io), 56 VCAP/VDDCORE (power), 57 ENVREG (power), 58 RF0 (io), 59 RF1 (io), 60 PMD0/RE0 (io), 61 PMD1/RE1 (io), 62 PMD2/RE2 (io), 63 PMD3/RE3 (io), 64 PMD4/RE4 (io)

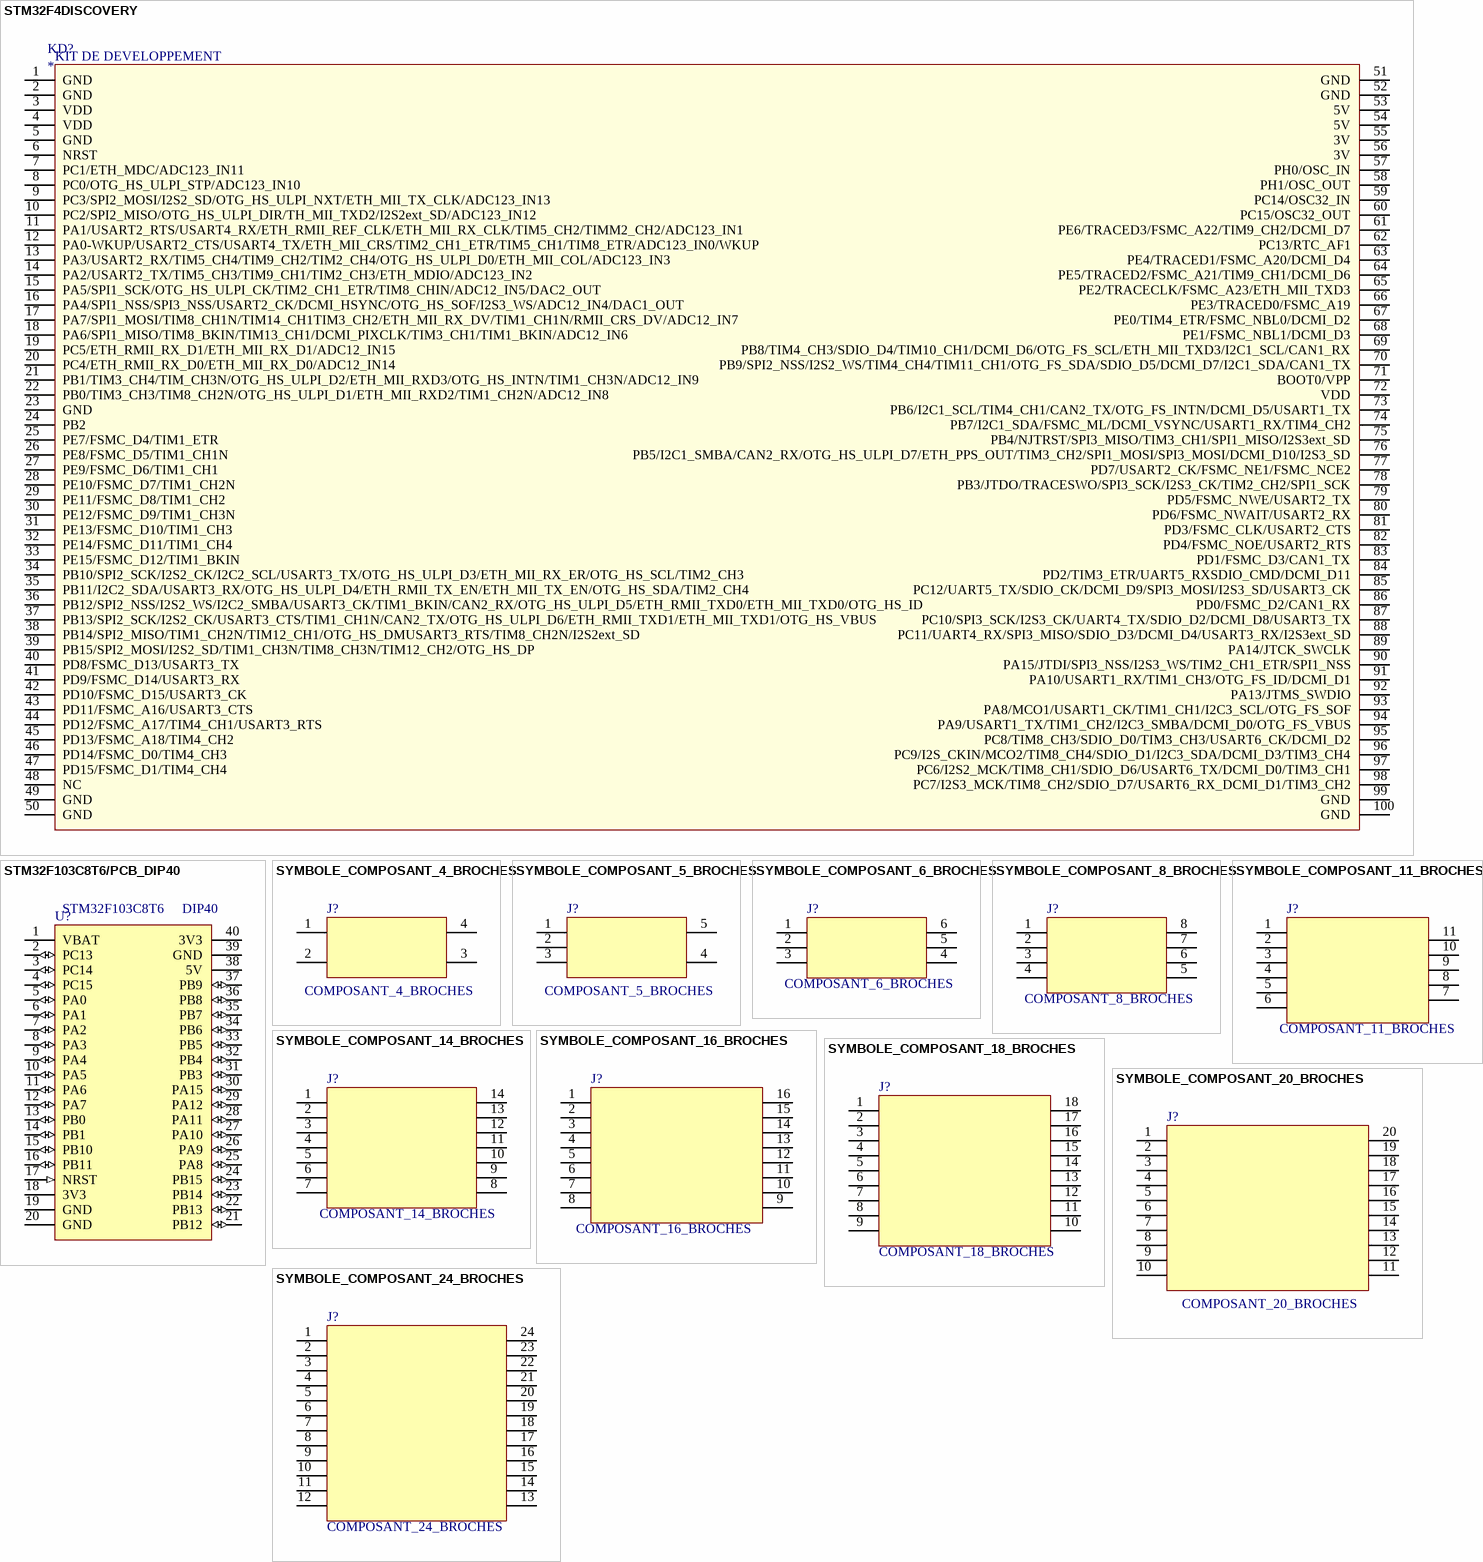
[diagram p8: symbols STM32F4DISCOVERY to SYMBOLE_COMPOSANT_24_BROCHES]

## STM32F4DISCOVERY
designator KD?  Type: KIT DE DEVELOPPEMENT
KIT DE DEVELOPPEMENT POUR MICROCONTROLEUR STM32F407VGT6
footprint STM32F4DISCOVERY (KIT DE DEVELOPPEMENT)
pins: 1 GND, 2 GND, 3 VDD, 4 VDD, 5 GND, 6 NRST, 7 PC1/ETH_MDC/ADC123_IN11, 8 PC0/OTG_HS_ULPI_STP/ADC123_IN10, 9 PC3/SPI2_MOSI/I2S2_SD/OTG_HS_ULPI_NXT/ETH_MII_TX_CLK/ADC123_IN13, 10 PC2/SPI2_MISO/OTG_HS_ULPI_DIR/TH_MII_TXD2/I2S2ext_SD/ADC123_IN12, 11 PA1/USART2_RTS/USART4_RX/ETH_RMII_REF_CLK/ETH_MII_RX_CLK/TIM5_CH2/TIMM2_CH2/ADC123_IN1, 12 PA0-WKUP/USART2_CTS/USART4_TX/ETH_MII_CRS/TIM2_CH1_ETR/TIM5_CH1/TIM8_ETR/ADC123_IN0/WKUP, 13 PA3/USART2_RX/TIM5_CH4/TIM9_CH2/TIM2_CH4/OTG_HS_ULPI_D0/ETH_MII_COL/ADC123_IN3, 14 PA2/USART2_TX/TIM5_CH3/TIM9_CH1/TIM2_CH3/ETH_MDIO/ADC123_IN2, 15 PA5/SPI1_SCK/OTG_HS_ULPI_CK/TIM2_CH1_ETR/TIM8_CHIN/ADC12_IN5/DAC2_OUT, 16 PA4/SPI1_NSS/SPI3_NSS/USART2_CK/DCMI_HSYNC/OTG_HS_SOF/I2S3_WS/ADC12_IN4/DAC1_OUT, 17 PA7/SPI1_MOSI/TIM8_CH1N/TIM14_CH1TIM3_CH2/ETH_MII_RX_DV/TIM1_CH1N/RMII_CRS_DV/ADC12_IN7, 18 PA6/SPI1_MISO/TIM8_BKIN/TIM13_CH1/DCMI_PIXCLK/TIM3_CH1/TIM1_BKIN/ADC12_IN6, 19 PC5/ETH_RMII_RX_D1/ETH_MII_RX_D1/ADC12_IN15, 20 PC4/ETH_RMII_RX_D0/ETH_MII_RX_D0/ADC12_IN14, 21 PB1/TIM3_CH4/TIM_CH3N/OTG_HS_ULPI_D2/ETH_MII_RXD3/OTG_HS_INTN/TIM1_CH3N/ADC12_IN9, 22 PB0/TIM3_CH3/TIM8_CH2N/OTG_HS_ULPI_D1/ETH_MII_RXD2/TIM1_CH2N/ADC12_IN8, 23 GND, 24 PB2, 25 PE7/FSMC_D4/TIM1_ETR, 26 PE8/FSMC_D5/TIM1_CH1N, 27 PE9/FSMC_D6/TIM1_CH1, 28 PE10/FSMC_D7/TIM1_CH2N, 29 PE11/FSMC_D8/TIM1_CH2, 30 PE12/FSMC_D9/TIM1_CH3N, 31 PE13/FSMC_D10/TIM1_CH3, 32 PE14/FSMC_D11/TIM1_CH4, 33 PE15/FSMC_D12/TIM1_BKIN, 34 PB10/SPI2_SCK/I2S2_CK/I2C2_SCL/USART3_TX/OTG_HS_ULPI_D3/ETH_MII_RX_ER/OTG_HS_SCL/TIM2_CH3, 35 PB11/I2C2_SDA/USART3_RX/OTG_HS_ULPI_D4/ETH_RMII_TX_EN/ETH_MII_TX_EN/OTG_HS_SDA/TIM2_CH4, 36 PB12/SPI2_NSS/I2S2_WS/I2C2_SMBA/USART3_CK/TIM1_BKIN/CAN2_RX/OTG_HS_ULPI_D5/ETH_RMII_TXD0/ETH_MII_TXD0/OTG_HS_ID, 37 PB13/SPI2_SCK/I2S2_CK/USART3_CTS/TIM1_CH1N/CAN2_TX/OTG_HS_ULPI_D6/ETH_RMII_TXD1/ETH_MII_TXD1/OTG_HS_VBUS, 38 PB14/SPI2_MISO/TIM1_CH2N/TIM12_CH1/OTG_HS_DMUSART3_RTS/TIM8_CH2N/I2S2ext_SD, 39 PB15/SPI2_MOSI/I2S2_SD/TIM1_CH3N/TIM8_CH3N/TIM12_CH2/OTG_HS_DP, 40 PD8/FSMC_D13/USART3_TX, 41 PD9/FSMC_D14/USART3_RX, 42 PD10/FSMC_D15/USART3_CK, 43 PD11/FSMC_A16/USART3_CTS, 44 PD12/FSMC_A17/TIM4_CH1/USART3_RTS, 45 PD13/FSMC_A18/TIM4_CH2, 46 PD14/FSMC_D0/TIM4_CH3, 47 PD15/FSMC_D1/TIM4_CH4, 48 NC, 49 GND, 50 GND, 51 GND, 52 GND, 53 5V, 54 5V, 55 3V, 56 3V, 57 PH0/OSC_IN, 58 PH1/OSC_OUT, 59 PC14/OSC32_IN, 60 PC15/OSC32_OUT, 61 PE6/TRACED3/FSMC_A22/TIM9_CH2/DCMI_D7, 62 PC13/RTC_AF1, 63 PE4/TRACED1/FSMC_A20/DCMI_D4, 64 PE5/TRACED2/FSMC_A21/TIM9_CH1/DCMI_D6, 65 PE2/TRACECLK/FSMC_A23/ETH_MII_TXD3, 66 PE3/TRACED0/FSMC_A19, 67 PE0/TIM4_ETR/FSMC_NBL0/DCMI_D2, 68 PE1/FSMC_NBL1/DCMI_D3, 69 PB8/TIM4_CH3/SDIO_D4/TIM10_CH1/DCMI_D6/OTG_FS_SCL/ETH_MII_TXD3/I2C1_SCL/CAN1_RX, 70 PB9/SPI2_NSS/I2S2_WS/TIM4_CH4/TIM11_CH1/OTG_FS_SDA/SDIO_D5/DCMI_D7/I2C1_SDA/CAN1_TX, 71 BOOT0/VPP, 72 VDD, 73 PB6/I2C1_SCL/TIM4_CH1/CAN2_TX/OTG_FS_INTN/DCMI_D5/USART1_TX, 74 PB7/I2C1_SDA/FSMC_ML/DCMI_VSYNC/USART1_RX/TIM4_CH2, 75 PB4/NJTRST/SPI3_MISO/TIM3_CH1/SPI1_MISO/I2S3ext_SD, 76 PB5/I2C1_SMBA/CAN2_RX/OTG_HS_ULPI_D7/ETH_PPS_OUT/TIM3_CH2/SPI1_MOSI/SPI3_MOSI/DCMI_D10/I2S3_SD, 77 PD7/USART2_CK/FSMC_NE1/FSMC_NCE2, 78 PB3/JTDO/TRACESWO/SPI3_SCK/I2S3_CK/TIM2_CH2/SPI1_SCK, 79 PD5/FSMC_NWE/USART2_TX, 80 PD6/FSMC_NWAIT/USART2_RX, 81 PD3/FSMC_CLK/USART2_CTS, 82 PD4/FSMC_NOE/USART2_RTS, 83 PD1/FSMC_D3/CAN1_TX, 84 PD2/TIM3_ETR/UART5_RXSDIO_CMD/DCMI_D11, 85 PC12/UART5_TX/SDIO_CK/DCMI_D9/SPI3_MOSI/I2S3_SD/USART3_CK, 86 PD0/FSMC_D2/CAN1_RX, 87 PC10/SPI3_SCK/I2S3_CK/UART4_TX/SDIO_D2/DCMI_D8/USART3_TX, 88 PC11/UART4_RX/SPI3_MISO/SDIO_D3/DCMI_D4/USART3_RX/I2S3ext_SD, 89 PA14/JTCK_SWCLK, 90 PA15/JTDI/SPI3_NSS/I2S3_WS/TIM2_CH1_ETR/SPI1_NSS, 91 PA10/USART1_RX/TIM1_CH3/OTG_FS_ID/DCMI_D1, 92 PA13/JTMS_SWDIO, 93 PA8/MCO1/USART1_CK/TIM1_CH1/I2C3_SCL/OTG_FS_SOF, 94 PA9/USART1_TX/TIM1_CH2/I2C3_SMBA/DCMI_D0/OTG_FS_VBUS, 95 PC8/TIM8_CH3/SDIO_D0/TIM3_CH3/USART6_CK/DCMI_D2, 96 PC9/I2S_CKIN/MCO2/TIM8_CH4/SDIO_D1/I2C3_SDA/DCMI_D3/TIM3_CH4, 97 PC6/I2S2_MCK/TIM8_CH1/SDIO_D6/USART6_TX/DCMI_D0/TIM3_CH1, 98 PC7/I2S3_MCK/TIM8_CH2/SDIO_D7/USART6_RX_DCMI_D1/TIM3_CH2, 99 GND, 100 GND

## STM32F103C8T6/PCB_DIP40
designator U?  Type: STM32F103C8T6  Package: DIP40  (hidden comment: STM32F103C8T6/PCB_DIP40)
MICROCONTROLEUR 32 BITS - 72MHz - 34 I/O - 64 KO : FLASH - 20KO RAM - 10 CANAUX A/D 12 BITS - DIP40 - UART, SPI, I2C, USB, CAN
3D model PDIP600-40 (DIP, Plastic; 40 Leads; Row Spacing 15.24 mm; Pitch 2.54 mm)
footprint STM32F103C8T6_DIP40 (STM32F103 monté sur DIP40)
pins: 1 VBAT (power), 2 PC13 (io), 3 PC14 (io), 4 PC15 (io), 5 PA0 (io), 6 PA1 (io), 7 PA2 (io), 8 PA3 (io), 9 PA4 (io), 10 PA5 (io), 11 PA6 (io), 12 PA7 (io), 13 PB0 (io), 14 PB1 (io), 15 PB10 (io), 16 PB11 (io), 17 NRST (in), 18 3V3 (power), 19 GND (power), 20 GND (power), 21 PB12 (io), 22 PB13 (io), 23 PB14 (io), 24 PB15 (io), 25 PA8 (io), 26 PA9 (io), 27 PA10 (io), 28 PA11 (io), 29 PA12 (io), 30 PA15 (io), 31 PB3 (io), 32 PB4 (io), 33 PB5 (io), 34 PB6 (io), 35 PB7 (io), 36 PB8 (io), 37 PB9 (io), 38 5V (power), 39 GND (power), 40 3V3 (power)

## SYMBOLE_COMPOSANT_4_BROCHES
designator J?, comment COMPOSANT_4_BROCHES
Type: COMPOSANT_4_BROCHES
signal-integrity model Connector
pins: 1, 2, 3, 4

## SYMBOLE_COMPOSANT_5_BROCHES
designator J?, comment COMPOSANT_5_BROCHES
Type: COMPOSANT_5_BROCHES
signal-integrity model Connector
pins: 1, 2, 3, 4, 5

## SYMBOLE_COMPOSANT_6_BROCHES
designator J?, comment COMPOSANT_6_BROCHES
Type: COMPOSANT_6_BROCHES
signal-integrity model Connector
pins: 1, 2, 3, 4, 5, 6

## SYMBOLE_COMPOSANT_8_BROCHES
designator J?, comment COMPOSANT_8_BROCHES
Type: COMPOSANT_8_BROCHES
signal-integrity model Connector
pins: 1, 2, 3, 4, 5, 6, 7, 8

## SYMBOLE_COMPOSANT_11_BROCHES
designator J?, comment COMPOSANT_11_BROCHES
Type: COMPOSANT_11_BROCHES
signal-integrity model Connector
pins: 1, 2, 3, 4, 5, 6, 7, 8, 9, 10, 11

## SYMBOLE_COMPOSANT_14_BROCHES
designator J?, comment COMPOSANT_14_BROCHES
Type: COMPOSANT_14_BROCHES
signal-integrity model Connector
pins: 1, 2, 3, 4, 5, 6, 7, 8, 9, 10, 11, 12, 13, 14

## SYMBOLE_COMPOSANT_16_BROCHES
designator J?, comment COMPOSANT_16_BROCHES
Type: COMPOSANT_16_BROCHES
signal-integrity model Connector
pins: 1, 2, 3, 4, 5, 6, 7, 8, 9, 10, 11, 12, 13, 14, 15, 16

## SYMBOLE_COMPOSANT_18_BROCHES
designator J?, comment COMPOSANT_18_BROCHES
Type: COMPOSANT_18_BROCHES
signal-integrity model Connector
pins: 1, 2, 3, 4, 5, 6, 7, 8, 9, 10, 11, 12, 13, 14, 15, 16, 17, 18

## SYMBOLE_COMPOSANT_20_BROCHES
designator J?, comment COMPOSANT_20_BROCHES
Type: COMPOSANT_20_BROCHES
signal-integrity model Connector
pins: 1, 2, 3, 4, 5, 6, 7, 8, 9, 10, 11, 12, 13, 14, 15, 16, 17, 18, 19, 20

## SYMBOLE_COMPOSANT_24_BROCHES
designator J?, comment COMPOSANT_24_BROCHES
Type: COMPOSANT_24_BROCHES
signal-integrity model Connector
pins: 1, 2, 3, 4, 5, 6, 7, 8, 9, 10, 11, 12, 13, 14, 15, 16, 17, 18, 19, 20, 21, 22, 23, 24

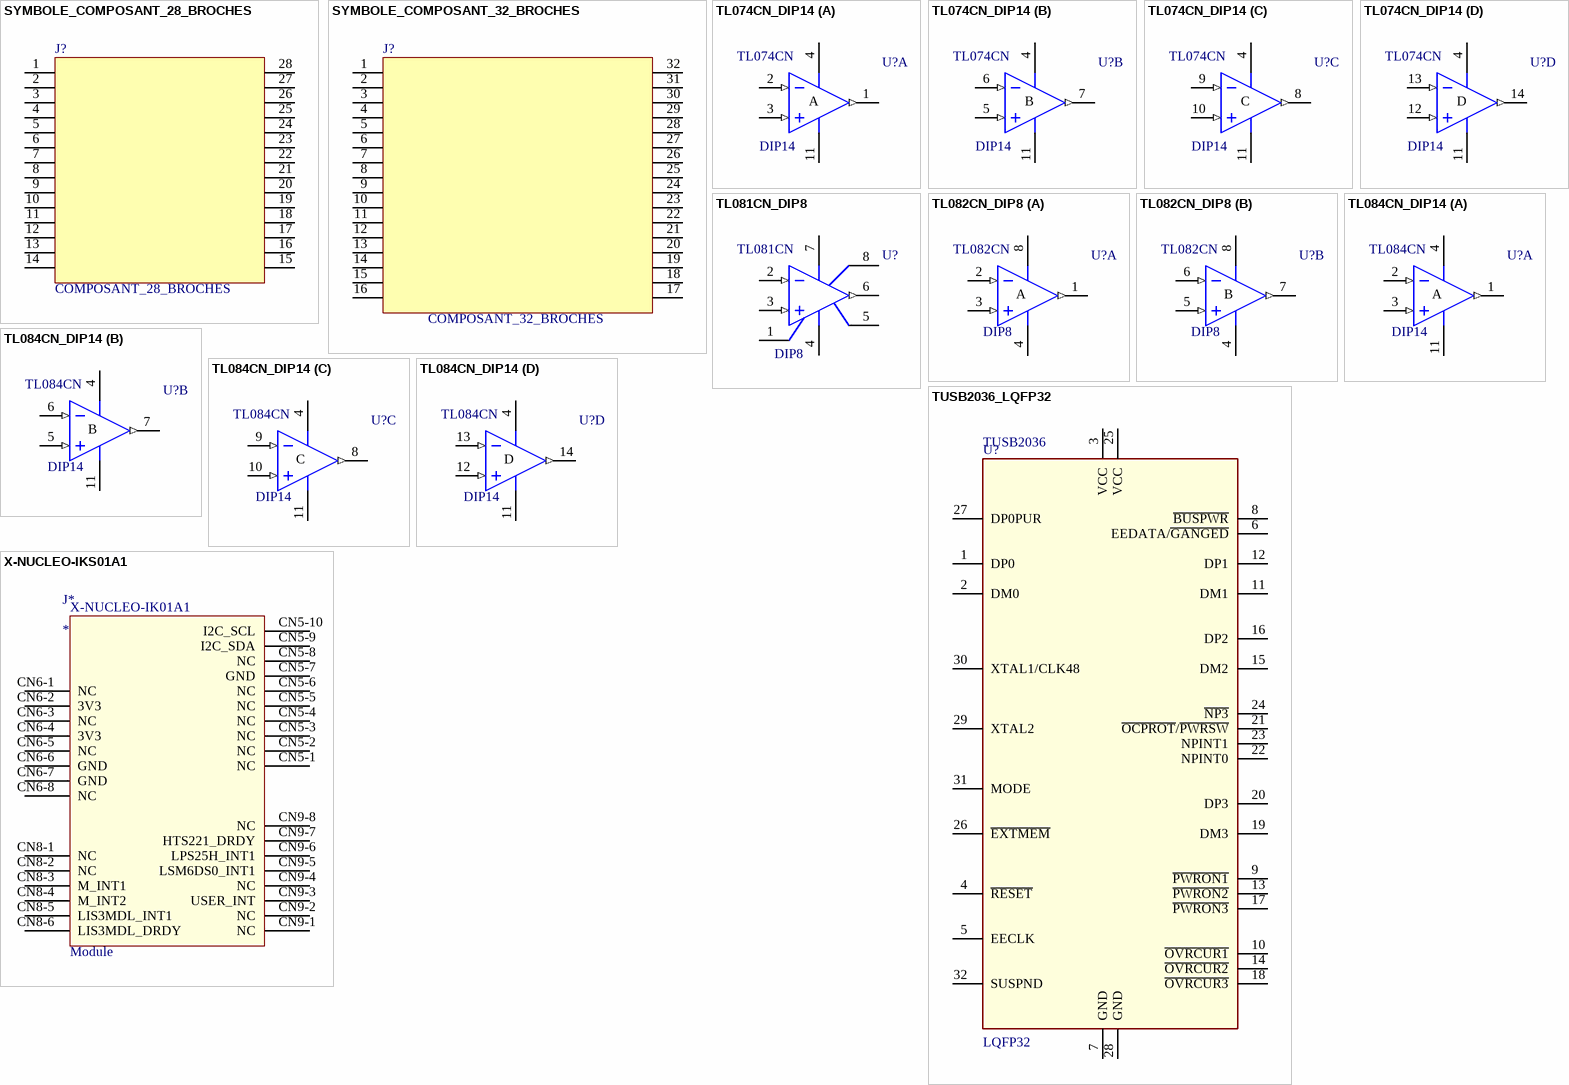
[diagram p9: symbols SYMBOLE_COMPOSANT_28_BROCHES to X-NUCLEO-IKS01A1]

## SYMBOLE_COMPOSANT_28_BROCHES
designator J?, comment COMPOSANT_28_BROCHES
Type: COMPOSANT_28_BROCHES
signal-integrity model Connector
pins: 1, 2, 3, 4, 5, 6, 7, 8, 9, 10, 11, 12, 13, 14, 15, 16, 17, 18, 19, 20, 21, 22, 23, 24, 25, 26, 27, 28

## SYMBOLE_COMPOSANT_32_BROCHES
designator J?, comment COMPOSANT_32_BROCHES
Type: COMPOSANT_32_BROCHES
signal-integrity model Connector
pins: 1, 2, 3, 4, 5, 6, 7, 8, 9, 10, 11, 12, 13, 14, 15, 16, 17, 18, 19, 20, 21, 22, 23, 24, 25, 26, 27, 28, 29, 30, 31, 32

## TL074CN_DIP14
designator U?  Type: TL074CN  Package: DIP14  (hidden comment: TL074CN_DIP14)
QUADRUPLE AMPLIFICATEUR OPERATIONNEL - FAIBLE BRUIT - ENTREES JFET - DIP14
3D model 646-06 (DIP; 14 Leads; Row Spacing 7.62 mm; Pitch 2.54 mm)
footprint DIP14_PAS=2.54_LARG=7.62_LONG=19 (Dual-In-Line Plastic Packages (PDIP) ; 14 Leads ; Row Spacing = 7.62 mm ; Pitch = 2.54 mm)
pins on every part: 4 V+ (power), 11 V- (power)
part A pins: 1 OUT (out), 2 IN- (in), 3 IN+ (in)
part B pins: 5 IN+ (in), 6 IN- (in), 7 OUT (out)
part C pins: 8 OUT (out), 9 IN- (in), 10 IN+ (in)
part D pins: 12 IN+ (in), 13 IN- (in), 14 OUT (out)
part A text: A
part B text: B
part C text: C
part D text: D

## TL081CN_DIP8
designator U?  Type: TL081CN  Package: DIP8  (hidden comment: TL081CN_DIP8)
SIMPLE AMPLIFICATEUR OPERATIONNEL - ENTREE HAUTE IMPEDANCE JFET - DIP8
3D model DIP8 (DIP; 8 Leads; Row Spacing 7.62 mm; Pitch 2.54 mm)
simulation model TL081 (SUBCKT)
footprint DIP8_PAS=2.54_LARG=7.62_LONG=10.9 (Dual-In-Line Plastic Packages (PDIP) ; 8 Leads ; Row Spacing = 7.62 mm ; Pitch = 2.54 mm)
pins: 1 OS NULL, 2 IN- (in), 3 IN+ (in), 4 V- (power), 5 OS NULL, 6 OUT (out), 7 V+ (power), 8 NC

## TL082CN_DIP8
designator U?  Type: TL082CN  Package: DIP8  (hidden comment: TL082CN_DIP8)
DOUBLE AMPLIFICATEUR OPERATIONNEL - ENTREE HAUTE IMPEDANCE JFET - DIP8
3D model DIP8 (DIP; 8 Leads; Row Spacing 7.62 mm; Pitch 2.54 mm)
simulation model TL082 (SUBCKT)
footprint DIP8_PAS=2.54_LARG=7.62_LONG=10.9 (Dual-In-Line Plastic Packages (PDIP) ; 8 Leads ; Row Spacing = 7.62 mm ; Pitch = 2.54 mm)
pins on every part: 4 V- (power), 8 V+ (power)
part A pins: 1 OUT (out), 2 IN- (in), 3 IN+ (in)
part B pins: 5 IN+ (in), 6 IN- (in), 7 OUT (out)
part A text: A
part B text: B

## TL084CN_DIP14
designator U?  Type: TL084CN  Package: DIP14  (hidden comment: TL084CN_DIP14)
QUADRUPLE AMPLIFICATEUR OPERATIONNEL - ENTREE HAUTE IMPEDANCE JFET - DIP14
simulation model TL084 (SUBCKT)
footprint DIP14_PAS=2.54_LARG=7.62_LONG=19 (Dual-In-Line Plastic Packages (PDIP) ; 14 Leads ; Row Spacing = 7.62 mm ; Pitch = 2.54 mm)
pins on every part: 4 V+ (power), 11 V- (power)
part A pins: 1 OUT (out), 2 IN- (in), 3 IN+ (in)
part B pins: 5 IN+ (in), 6 IN- (in), 7 OUT (out)
part C pins: 8 OUT (out), 9 IN- (in), 10 IN+ (in)
part D pins: 12 IN+ (in), 13 IN- (in), 14 OUT (out)
part A text: A
part B text: B
part C text: C
part D text: D

## TUSB2036_LQFP32
designator U?  Type: TUSB2036  Package: LQFP32  (hidden comment: TUSB2036_LQFP32)
PORT 2/3-HUB POUR USB AVEC INTERFACE SERIE EEPROM OPTIONNELLE - LQFP32
footprint LQFP32_PAS=0.8_LARG=9_LONG=9 (Low Plastic Quad Flatpack Packages ; 32 Leads ; Body 7mm x 7mm ; Pitch = 0.8mm ; IPC Low Density)
pins: 1 DP0, 2 DM0, 3 VCC, 4 ~{RESET}, 5 EECLK, 6 EEDATA/~{GANGED}, 7 GND, 8 ~{BUSPWR}, 9 ~{PWRON1}, 10 ~{OVRCUR1}, 11 DM1, 12 DP1, 13 ~{PWRON2}, 14 ~{OVRCUR2}, 15 DM2, 16 DP2, 17 ~{PWRON3}, 18 ~{OVRCUR3}, 19 DM3, 20 DP3, 21 ~{OCPROT}/~{PWRSW}, 22 NPINT0, 23 NPINT1, 24 ~{NP3}, 25 VCC, 26 ~{EXTMEM}, 27 DP0PUR, 28 GND, 29 XTAL2, 30 XTAL1/CLK48, 31 MODE, 32 SUSPND

## X-NUCLEO-IKS01A1
designator J*
X-NUCLEO-IKS01A1
footprint X-NUCLEO-IK01A1
pins: CN5-1 NC, CN5-2 NC, CN5-3 NC, CN5-4 NC, CN5-5 NC, CN5-6 NC, CN5-7 GND, CN5-8 NC, CN5-9 I2C_SDA, CN5-10 I2C_SCL, CN6-1 NC, CN6-2 3V3, CN6-3 NC, CN6-4 3V3, CN6-5 NC, CN6-6 GND, CN6-7 GND, CN6-8 NC, CN8-1 NC, CN8-2 NC, CN8-3 M_INT1, CN8-4 M_INT2, CN8-5 LIS3MDL_INT1, CN8-6 LIS3MDL_DRDY, CN9-1 NC, CN9-2 NC, CN9-3 USER_INT, CN9-4 NC, CN9-5 LSM6DS0_INT1, CN9-6 LPS25H_INT1, CN9-7 HTS221_DRDY, CN9-8 NC
text: X-NUCLEO-IK01A1; Module